# Altium footprint library TO92_TO226_L_T.PcbLib: 1 footprints
Each footprint in its own frame and in the unit in brackets; x right, y up, seen from the top. Pads: shape width x height; smd on the part's side, far side on the other; paste and mask are expansions set on the pad; w line width, h text height; cw(c..) or ccw(c..) is an arc to the next point about the centre after c.
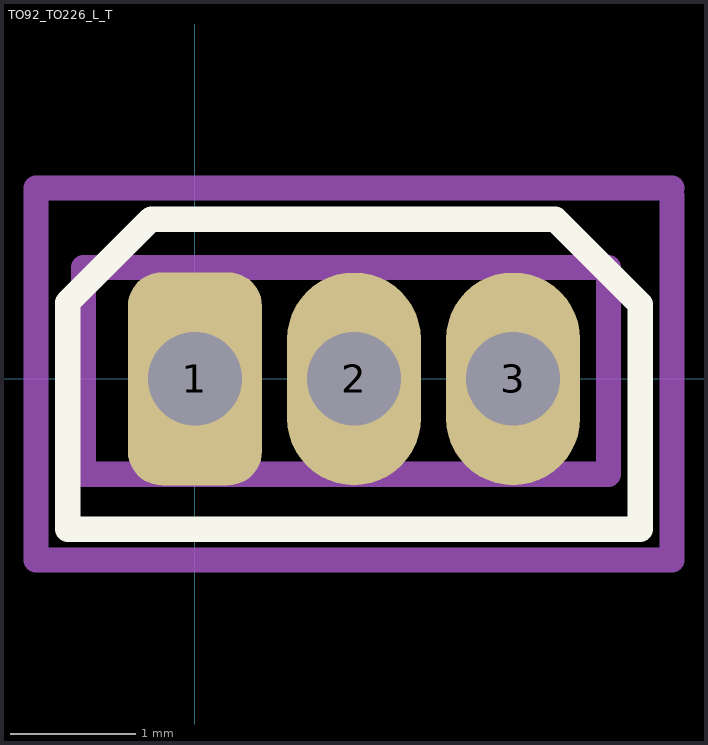
[diagram p0: the footprint, top view; thin cyan lines are the x and y axes]

## TO92_TO226_L_T [mm]
pads (3):
  rrect50% 1.07x1.7 hole 0.75 paste+0 mask+0.07: 1(0,0)
  oval 1.07x1.7 hole 0.75 paste+0 mask+0.07: 2(1.27,0) 3(2.54,0)
Top Overlay:
  lines w0.203: -1.016,-1.2 3.556,-1.2 3.556,0.594 2.875,1.275 -0.35,1.275 -1.016,0.609 -1.016,-1.2
Mechanical 2:
  lines w0.2: -0.889,-0.762 -0.889,0.889 3.302,0.889 3.302,-0.762 -0.889,-0.762
Mechanical 4:
  lines w0.2: 3.81,1.46 3.81,-1.448 2.508,-1.448 -0.095,-1.448 -1.27,-1.448 -1.27,1.524 3.81,1.524
3D body "Hal uciety.step": height 5.55, standoff -3.2, extent -0.8,-0.595 3.2,0.925